# Altium footprint library my_first_iso_adc.PcbLib: 32 footprints (part 2 of 2)
Each footprint in its own frame and in the unit in brackets; x right, y up, seen from the top. Pads: shape width x height; smd on the part's side, far side on the other; paste and mask are expansions set on the pad; w line width, h text height; cw(c..) or ccw(c..) is an arc to the next point about the centre after c.
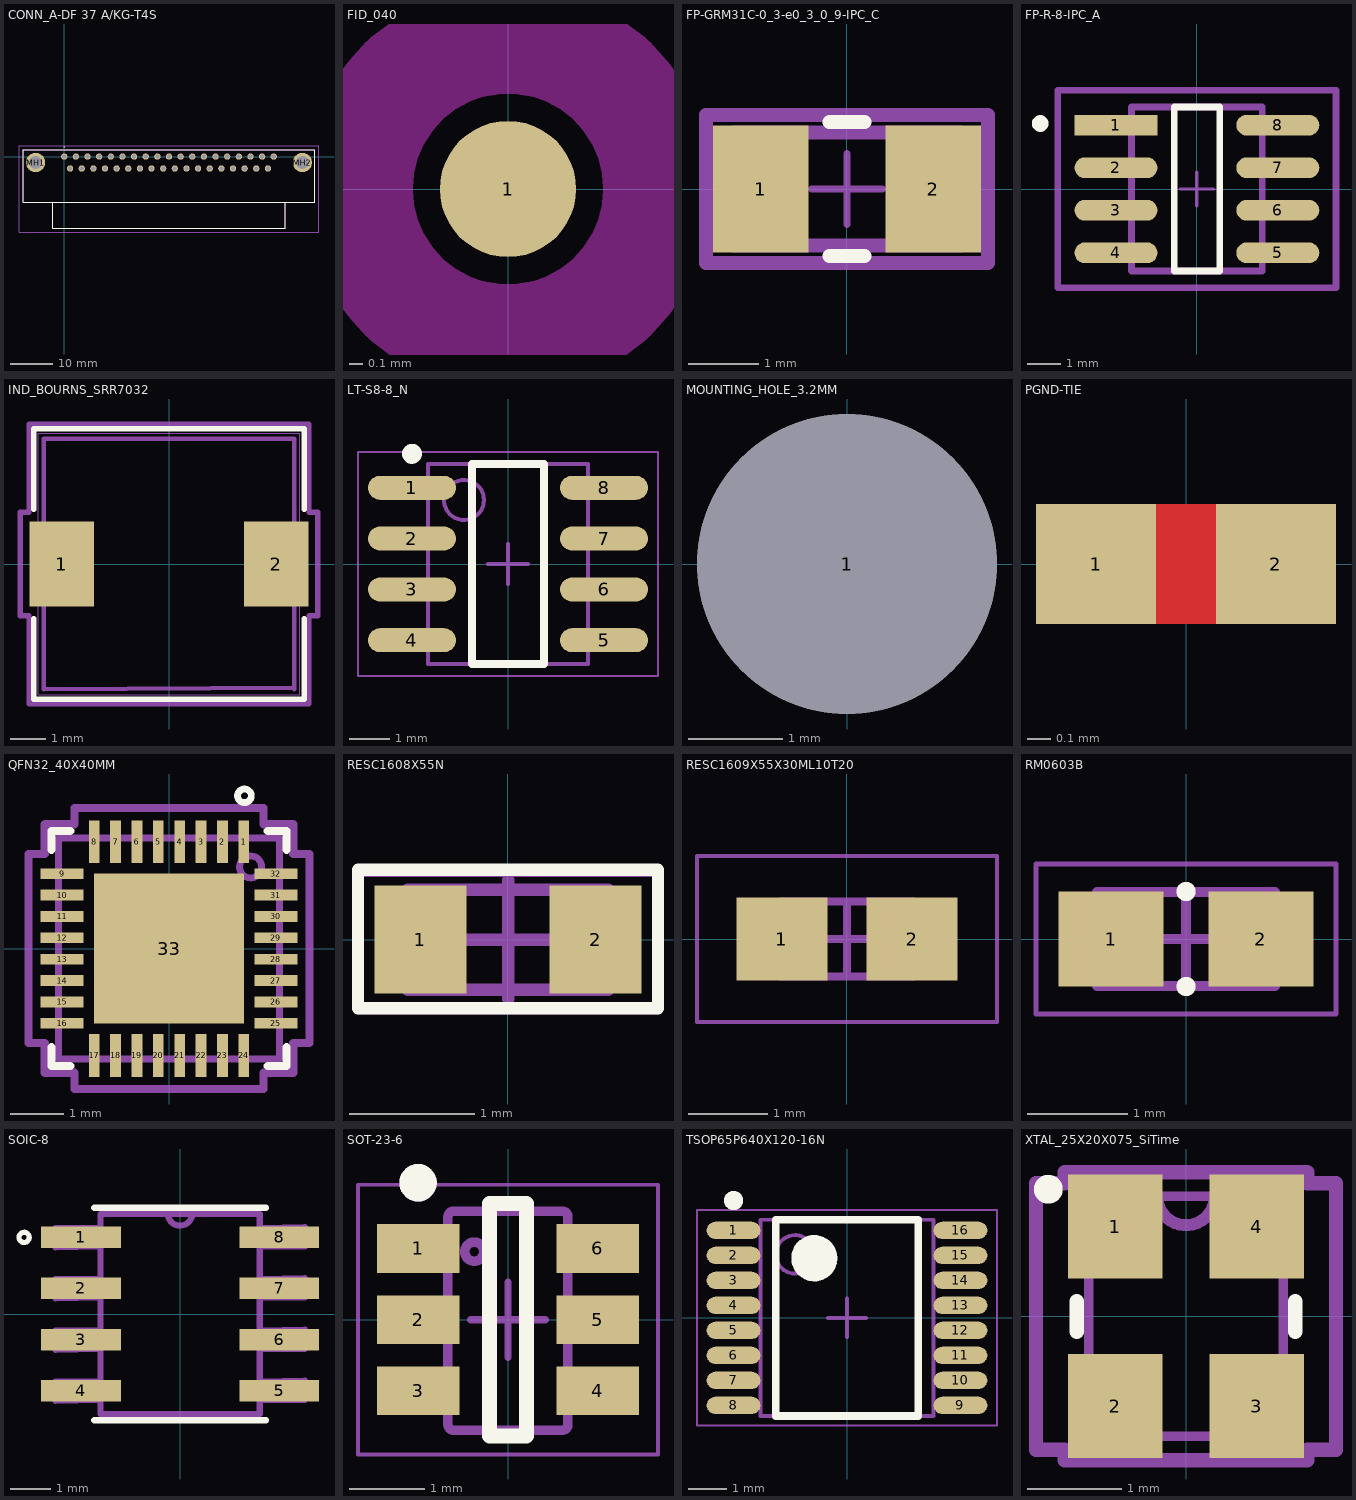
[diagram p1: the footprints below, top view; thin cyan lines are the x and y axes]

## CONN_A-DF 37 A/KG-T4S [mm]
pads (39):
  round 1.5 hole 1: 1(0,0) 2(2.77,0) 3(5.54,0) 4(8.31,0) 5(11.08,0) 6(13.85,0) 7(16.62,0) 8(19.39,0) 9(22.16,0) 10(24.93,0) 11(27.7,0) 12(30.47,0) 13(33.24,0) 14(36.01,0) 15(38.78,0) 16(41.55,0) 17(44.32,0) 18(47.09,0) 19(49.86,0) 20(1.385,-2.84) 21(4.155,-2.84) 22(6.925,-2.84) 23(9.695,-2.84) 24(12.465,-2.84) 25(15.235,-2.84) 26(18.005,-2.84) 27(20.775,-2.84) 28(23.545,-2.84) 29(26.315,-2.84) 30(29.085,-2.84) 31(31.855,-2.84) 32(34.625,-2.84) 33(37.395,-2.84) 34(40.165,-2.84) 35(42.935,-2.84) 36(45.705,-2.84) 37(48.475,-2.84)
  round 4.575 hole 3.05: MH1(-6.82,-1.42) MH2(56.68,-1.42)
Top Overlay:
  lines w0.2: -9.77,-10.92 -9.77,1.58 ; -9.77,-10.92 -9.77,1.58 ; -9.77,-10.92 -2.82,-10.92 -9.77,-10.92 ; -9.77,1.58 59.63,1.58 ; -9.77,1.58 59.63,1.58 ; 0,2.2 cw(c0,2.25) 0,2.3 ; 0,2.2 ccw(c0,2.25) 0,2.3 ; 0,2.2 cw(c0,2.25) 0,2.3 ; 52.64,-10.92 -2.78,-10.92 -2.78,-17.02 52.64,-17.02 52.64,-10.92 ; 52.64,-10.92 59.63,-10.92 ; 52.64,-10.92 59.63,-10.92 ; 59.63,-10.92 59.63,1.58 ; 59.63,-10.92 59.63,1.58
Top Assembly:
  text ".Designator" at 22.511,-5.357 h1.02
Top Courtyard:
  lines w0.1: -10.77,-18.02 -10.77,2.58 60.63,2.58 60.63,-18.02 -10.77,-18.02 ; -9.77,-10.92 -9.77,1.58 59.63,1.58 59.63,-10.92 -9.77,-10.92 ; -2.78,-17.02 -2.78,-10.92 52.64,-10.92 52.64,-17.02 -2.78,-17.02
3D body "A-DF-37-A_KG-T4S.stp": height 12.9, standoff -5, extent -9.77,-17.02 59.63,1.58

## FID_040 [mm]
pads (1):
  round 1 smd paste-1.5 mask+1: 1(0,0)
Top Layer keep-out:
  circle w0.8: c0,0 r1.1

## FP-GRM31C-0_3-e0_3_0_9-IPC_C [mm]
pads (2):
  rect 1.353x1.804 smd paste+0 mask+0: 1(-1.225,0) 2(1.225,0)
Top Overlay:
  lines w0.2: -0.249,-0.95 0.249,-0.95 ; -0.249,0.95 0.249,0.95
Top 3D Body:
  lines w0.2: -1.6,-0.8 -1.6,0.8 1.6,0.8 1.6,-0.8 -1.6,-0.8
Top Component Center:
  lines w0.1: -0.5,0 0.5,0 ; 0,-0.5 0,0.5
Top Assembly:
  lines w0.2: -2.002,-1.05 -2.002,1.05 2.002,1.05 2.002,-1.05 -2.002,-1.05
  text ".Designator" at 0,0.188 h1
Top Courtyard:
  lines w0.2: -2.002,-1.05 -2.002,1.05 2.002,1.05 2.002,-1.05 -2.002,-1.05
3D body "Cap_Murata_GRM31CC72A475KE11K_eec.STEP": height 0.25, standoff 0, extent -2.002,-1.05 2.002,1.05

## FP-R-8-IPC_A [mm]
pads (8):
  rect 2.474x0.622 smd paste+0 mask+0: 1(-2.416,1.905)
  rrect100% 2.474x0.622 smd paste+0 mask+0: 2(-2.416,0.635) 3(-2.416,-0.635) 4(-2.416,-1.905) 5(2.416,-1.905) 6(2.416,-0.635) 7(2.416,0.635) 8(2.416,1.905)
Top Overlay:
  circle w0.25: c-4.678,1.955 r0.125
  lines w0.2: -0.679,-2.45 -0.679,2.45 0.679,2.45 0.679,-2.45 -0.679,-2.45
Top Assembly:
  lines w0.2: -1.95,-2.45 -1.95,2.45 1.95,2.45 1.95,-2.45 -1.95,-2.45
  text ".Designator" at 0,0.188 h1
Top Courtyard:
  lines w0.2: -4.153,-2.95 -4.153,2.95 4.153,2.95 4.153,-2.95 -4.153,-2.95
Bottom Courtyard:
  lines w0.1: -0.5,0 0.5,0 ; 0,-0.5 0,0.5
3D body "IC_Analog_Devices_AD629ARZ_eec.STEP": height 0.25, standoff 0, extent -4.153,-2.95 4.153,2.95

## IND_BOURNS_SRR7032 [mil]
pads (2):
  rect 71x94 smd paste+0 mask+0: 1(-118,0) 2(118,0)
Top Overlay:
  lines w6: -149,-60.1 -149,-149 149,-149 149,-60.1 ; -149,60.1 -149,149 149,149 149,60.1
Top Assembly:
  lines w1: -144,-144 144,-144 144,144 -144,144 -144,-144
  lines w5: 137.8,-137.8 137.8,137.8 -137.8,137.8 -137.8,-137.8 137.8,-136.17
  text ".Designator" at -20.24,-12.23 h50
Top Courtyard:
  lines w6: -163.5,-57 -163.5,57 -154,57 -154,154 154,154 154,57 163.5,57 163.5,-57 154,-57 154,-154 -154,-154 -154,-57 -163.5,-57
3D body "IND_BOURNS_SRR7032.step": height 134.09, standoff -0.12, extent -144.02,-144.09 144.02,144.09

## LT-S8-8_N [mm]
pads (8):
  oval 2.2x0.6 smd: 1(-2.4,1.905) 2(-2.4,0.635) 3(-2.4,-0.635) 4(-2.4,-1.905) 5(2.4,-1.905) 6(2.4,-0.635) 7(2.4,0.635) 8(2.4,1.905)
Top Overlay:
  circle w0.25: c-2.4,2.755 r0.125
  lines w0.2: -0.9,-2.5 0.9,-2.5 0.9,2.5 -0.9,2.5 -0.9,-2.5
Top Assembly:
  circle w0.1: c-1.1,1.6 r0.5
  lines w0.1: -2,-2.5 -2,2.5 2,2.5 2,-2.5 -2,-2.5
  text ".Designator" at -0.594,-0.264 h1.27
Top Courtyard:
  lines w0.05: -3.75,-2.8 -3.75,2.8 3.75,2.8 3.75,-2.8 -3.75,-2.8
  lines w0.1: -0.5,0 0.5,0 ; 0,-0.5 0,0.5
3D body: height 1.76, standoff 0.1, extent -2,-2.5 2,2.5

## MOUNTING_HOLE_3.2MM [mm]
pads (1):
  round 3.2 hole 3.2 unplated: 1(0,0)

## PGND-TIE [mil]
pads (2):
  rect 20x20 smd mask+0: 1(-15,0) 2(15,0)
Top Layer:
  lines w20: -15,0 15,0

## QFN32_40X40MM [mm]
pads (37):
  rect 0.2x0.8 smd paste+0 mask+0.051: 1(1.4,2) 2(1,2) 3(0.6,2) 4(0.2,2) 5(-0.2,2) 6(-0.6,2) 7(-1,2) 8(-1.4,2) 17(-1.4,-2) 18(-1,-2) 19(-0.6,-2) 20(-0.2,-2) 21(0.2,-2) 22(0.6,-2) 23(1,-2) 24(1.4,-2)
  rect 0.8x0.2 smd paste+0 mask+0.051: 9(-2,1.4) 10(-2,1) 11(-2,0.6) 12(-2,0.2) 13(-2,-0.2) 14(-2,-0.6) 15(-2,-1) 16(-2,-1.4) 25(2,-1.4) 26(2,-1) 27(2,-0.6) 28(2,-0.2) 29(2,0.2) 30(2,0.6) 31(2,1) 32(2,1.4)
  rect 2.8x2.8 smd paste+0 mask+0: 33(0,0)
  rect 1.2x1.2 on Top Paste: ""(-0.75,-0.75) ""(-0.75,0.75) ""(0.75,-0.75) ""(0.75,0.75)
Top Overlay:
  circle w0.127: c1.412,2.857 r0.128
  lines w0.152: -2.197,-1.847 -2.197,-2.197 -1.847,-2.197 ; -2.197,1.847 -2.197,2.197 -1.847,2.197 ; 1.847,-2.197 2.197,-2.197 2.197,-1.847 ; 1.847,2.197 2.197,2.197 2.197,1.847
Top Assembly:
  circle w0.127: c1.527,1.527 r0.206
  lines w0.127: -2.07,-2.07 2.07,-2.07 2.07,2.07 -2.07,2.07 -2.07,-2.07 ; -2.07,-1.527 -2.07,-1.273 -2.07,-1.527 ; -2.07,-1.127 -2.07,-0.873 -2.07,-1.127 ; -2.07,-0.727 -2.07,-0.473 -2.07,-0.727 ; -2.07,-0.327 -2.07,-0.073 -2.07,-0.327 ; -2.07,0.073 -2.07,0.327 -2.07,0.073 ; -2.07,0.473 -2.07,0.727 -2.07,0.473 ; -2.07,0.873 -2.07,1.127 -2.07,0.873 ; -2.07,1.273 -2.07,1.527 -2.07,1.273 ; -1.527,-2.07 -1.273,-2.07 -1.527,-2.07 ; -1.527,2.07 -1.273,2.07 -1.527,2.07 ; -1.127,-2.07 -0.873,-2.07 -1.127,-2.07 ; -1.127,2.07 -0.873,2.07 -1.127,2.07 ; -0.727,-2.07 -0.473,-2.07 -0.727,-2.07 ; -0.727,2.07 -0.473,2.07 -0.727,2.07 ; -0.327,-2.07 -0.073,-2.07 -0.327,-2.07 ; -0.327,2.07 -0.073,2.07 -0.327,2.07 ; 0.073,-2.07 0.327,-2.07 0.073,-2.07 ; 0.073,2.07 0.327,2.07 0.073,2.07 ; 0.473,-2.07 0.727,-2.07 0.473,-2.07 ; 0.473,2.07 0.727,2.07 0.473,2.07 ; 0.873,-2.07 1.127,-2.07 0.873,-2.07 ; 0.873,2.07 1.127,2.07 0.873,2.07 ; 1.273,-2.07 1.527,-2.07 1.273,-2.07 ; 1.273,2.07 1.527,2.07 1.273,2.07 ; 2.07,-1.527 2.07,-1.273 2.07,-1.527 ; 2.07,-1.127 2.07,-0.873 2.07,-1.127 ; 2.07,-0.727 2.07,-0.473 2.07,-0.727 ; 2.07,-0.327 2.07,-0.073 2.07,-0.327 ; 2.07,0.073 2.07,0.327 2.07,0.073 ; 2.07,0.473 2.07,0.727 2.07,0.473 ; 2.07,0.873 2.07,1.127 2.07,0.873 ; 2.07,1.273 2.07,1.527 2.07,1.273
  text ".Designator" at -0.936,-0.428 h1.52
Top Courtyard:
  lines w0.152: -2.629,-1.768 -2.629,1.768 -2.324,1.768 -2.324,2.324 -1.768,2.324 -1.768,2.629 1.768,2.629 1.768,2.324 2.324,2.324 2.324,1.768 2.629,1.768 2.629,-1.768 2.324,-1.768 2.324,-2.324 1.768,-2.324 1.768,-2.629 -1.768,-2.629 -1.768,-2.324 -2.324,-2.324 -2.324,-1.768 -2.629,-1.768
3D body "RSN32_TEX.step": height 0.97, standoff 0, extent -2.07,-2.07 2.07,2.07

## RESC1608X55N [mil]
pads (2):
  rect 29x34 smd mask+2: 1(-27.56,0) 2(27.56,0)
Top Overlay:
  lines w3.94: -47.24,21.65 -47.24,-21.65 47.24,-21.65 47.24,21.65 ; -47.24,22 47.24,22
Top Assembly:
  lines w3.94: -31.5,-15.75 -31.5,15.75 31.5,15.75 31.5,-15.75 -31.5,-15.75
  text ".Designator" at -31.5,-15.75 h40
Top Courtyard:
  lines w3.94: -18.7,0 18.7,0 ; 0,-18.7 0,18.7 ; -47.24,-21.65 47.24,-21.65 47.24,21.65 -47.24,21.65 -47.24,-21.65
3D body "ERJ-PB3D2701V.STEP": height 21.65, standoff 0, extent -31.5,-15.75 31.5,15.75

## RESC1609X55X30ML10T20 [mm] "Chip Resistor, 2-Leads, Body 1.60x0.85mm, IPC Low Density"
height 0.55
pads (2):
  rect 1.15x1.05 smd: 1(-0.825,0) 2(0.825,0)
Top Assembly:
  lines w0.1: -0.85,-0.475 0.85,-0.475 0.85,0.475 -0.85,0.475 -0.85,-0.475
Top Courtyard:
  lines w0.05: -1.9,-1.05 1.9,-1.05 1.9,1.05 -1.9,1.05 -1.9,-1.05
  lines w0.1: -0.475,0 0.475,0 ; 0,-0.475 0,0.475
3D body: height 0.55, standoff 0, extent 0.55,-0.475 0.85,0.475
3D body: height 0.55, standoff 0, extent -0.85,-0.475 -0.55,0.475
3D body: height 0.55, standoff 0, extent -0.55,-0.475 0.55,0.475

## RM0603B [mm] "RM0603 Chip Resistor, Config B, 2-Leads, Body 1.63x0.82mm, IPC Medium Density"
height 0.84
pads (2):
  rect 1.05x0.95 smd: 1(-0.75,0) 2(0.75,0)
Top Overlay:
  circle w0.097: c0,-0.475 r0.048
  circle w0.097: c0,0.475 r0.048
Top Assembly:
  lines w0.1: -0.89,-0.47 0.89,-0.47 0.89,0.47 -0.89,0.47 -0.89,-0.47
Top Courtyard:
  lines w0.05: -1.5,-0.75 1.5,-0.75 1.5,0.75 -1.5,0.75 -1.5,-0.75
  lines w0.1: -0.47,0 0.47,0 ; 0,-0.47 0,0.47
3D body: height 0.84, standoff 0, extent 0.51,-0.47 0.89,0.47
3D body: height 0.84, standoff 0, extent -0.89,-0.47 -0.51,0.47
3D body: height 0.84, standoff 0, extent -0.51,-0.47 0.51,0.47

## SOIC-8 [mil]
pads (8):
  rect 78x21 smd: 1(-97,75) 2(-97,25) 3(-97,-25) 4(-97,-75) 5(97,-75) 6(97,-25) 7(97,25) 8(97,75)
Top Overlay:
  circle w5: c-152.67,75 r5
  lines w6: -84,-104 84,-104 ; -84,104 84,104
Top Assembly:
  lines w6: -12,98.08 ccw(c0,98.5) 12,98.92 ; -122,-85 -78,-84 -78,-66 -122,-66 -122,-85 ; -122,-35 -78,-34 -78,-16 -122,-16 -122,-35 ; -122,15 -78,16 -78,34 -122,34 -122,15 ; -122,65 -122,84 -78,84 -78,66 -122,65 ; -78,-98 -78,98 -12,98 78,98 78,-98 -78,-98 ; 78,-84 122,-84 122,-65 78,-66 78,-84 ; 78,-34 78,-16 122,-15 122,-34 78,-34 ; 78,16 122,16 122,35 78,34 78,16 ; 78,66 122,66 122,85 78,84 78,66
  text ".Designator" at -29.11,-17.53 h60
3D body "LT1678CS8#TRPBF.STEP": height 69, standoff 0, extent -118,-96.5 118,96.5

## SOT-23-6 [mm]
pads (6):
  rect 1.1x0.65 smd paste-0.102 mask+0.051: 1(-1.2,0.95) 2(-1.2,0) 3(-1.2,-0.95) 4(1.2,-0.95) 5(1.2,0) 6(1.2,0.95)
Top Overlay:
  circle w0.25: c-1.2,1.825 r0.125
  lines w0.2: -0.25,-1.55 -0.25,1.55 0.25,1.55 0.25,-1.55 -0.25,-1.55
Top Assembly:
  circle w0.25: c-1.2,1.825 r0.125
  lines w0.127: 0.724,-1.475 ccw(c0.723,-1.399) 0.8,-1.399 0.8,1.37 ccw(c0.723,1.37) 0.724,1.446 ; 0.723,-1.475 0.724,-1.475 ; 0.723,-1.475 -0.724,-1.475 -0.725,-1.475 cw(c-0.724,-1.399) -0.801,-1.399 -0.801,1.37 cw(c-0.724,1.37) -0.725,1.446 -0.724,1.446 0.723,1.446 ; 0.723,1.446 0.724,1.446 ; -1.423,-1.154 -1.423,-0.78 -1.206,-0.78 -1.113,-0.78 -1.081,-0.78 -0.828,-0.78 -0.801,-0.78 -0.801,-1.154 -0.828,-1.154 -1.081,-1.154 -1.113,-1.154 -1.206,-1.154 -1.423,-1.154 ; -1.423,-0.202 -1.423,0.173 -1.206,0.173 -1.113,0.173 -1.081,0.173 -0.828,0.173 -0.801,0.173 -0.801,-0.202 -0.828,-0.202 -1.081,-0.202 -1.113,-0.202 -1.206,-0.202 -1.423,-0.202 ; -1.423,0.751 -1.423,1.125 -1.206,1.125 -1.113,1.125 -1.081,1.125 -0.828,1.125 -0.801,1.125 -0.801,0.751 -0.828,0.751 -1.081,0.751 -1.113,0.751 -1.206,0.751 -1.423,0.751 ; -0.577,0.906 ccw(c-0.45,0.906) -0.323,0.906 ccw(c-0.45,0.906) -0.577,0.906 ; 0.8,-1.154 0.8,-0.78 0.827,-0.78 1.08,-0.78 1.112,-0.78 1.205,-0.78 1.422,-0.78 1.422,-1.154 1.205,-1.154 1.112,-1.154 1.08,-1.154 0.827,-1.154 0.8,-1.154 ; 0.8,-0.202 0.827,-0.202 1.08,-0.202 1.112,-0.202 1.205,-0.202 1.422,-0.202 1.422,0.173 1.205,0.173 1.112,0.173 1.08,0.173 0.827,0.173 0.8,0.173 0.8,-0.202 ; 0.8,0.751 0.8,1.125 0.827,1.125 1.08,1.125 1.112,1.125 1.205,1.125 1.422,1.125 1.422,0.751 1.205,0.751 1.112,0.751 1.08,0.751 0.827,0.751 0.8,0.751
  text ".Designator" at -0.71,0.925 h1.27
Top Courtyard:
  lines w0.05: -2,-1.8 2,-1.8 2,1.8 -2,1.8 -2,-1.8
  lines w0.1: -0.5,0 0.5,0 ; 0,-0.5 0,0.5
3D body "DBV0006A.stp": height 1.2, standoff 0, extent -1.4,-1.45 1.4,1.45

## TSOP65P640X120-16N [mm]
pads (16):
  oval 1.4x0.45 smd: 1(-2.95,2.275) 2(-2.95,1.625) 3(-2.95,0.975) 4(-2.95,0.325) 5(-2.95,-0.325) 6(-2.95,-0.975) 7(-2.95,-1.625) 8(-2.95,-2.275) 9(2.95,-2.275) 10(2.95,-1.625) 11(2.95,-0.975) 12(2.95,-0.325) 13(2.95,0.325) 14(2.95,0.975) 15(2.95,1.625) 16(2.95,2.275)
Top Overlay:
  circle w0.6: c-0.85,1.55 r0.3
  circle w0.25: c-2.95,3.05 r0.125
  lines w0.2: -1.85,-2.55 1.85,-2.55 1.85,2.55 -1.85,2.55 -1.85,-2.55
Top Assembly:
  circle w0.1: c-1.35,1.65 r0.5
  lines w0.1: -2.25,-2.55 2.25,-2.55 2.25,2.55 -2.25,2.55 -2.25,-2.55
  text ".Designator" at -0.805,-0.435 h1.52
Top Courtyard:
  lines w0.05: -3.9,-2.8 3.9,-2.8 3.9,2.8 -3.9,2.8 -3.9,-2.8
  lines w0.1: -0.5,0 0.5,0 ; 0,-0.5 0,0.5
3D body "TSOP65P640X120-16N.step": height 1.2, standoff 0, extent -3.2,-2.55 3.2,2.55

## XTAL_25X20X075_SiTime [mm]
pads (4):
  rect 1x1.1 smd paste+0 mask+0: 1(-0.75,0.95) 2(-0.75,-0.95) 3(0.75,-0.95) 4(0.75,0.95)
Top Overlay:
  circle w0.152: c-1.457,1.345 r0.076
  lines w0.152: -1.156,-0.162 -1.156,0.162 ; 1.156,-0.162 1.156,0.162
Top Assembly:
  lines w0.102: -1.029,-1.27 -1.029,1.27 1.029,1.27 1.029,-1.27 -1.029,-1.27
  lines w0.127: -0.305,1.27 ccw(c0,1.27) 0.305,1.27
  text ".Designator" at 0.428,0.266 h0.8
Top Courtyard:
  lines w0.152: -1.587,-1.409 -1.587,1.409 -1.283,1.409 -1.283,1.524 1.283,1.524 1.283,1.409 1.587,1.409 1.587,-1.409 1.283,-1.409 1.283,-1.524 -1.283,-1.524 -1.283,-1.409 -1.587,-1.409
3D body "CDFN4_2P5X2_MCH.step": height 0.89, standoff 0, extent -1.029,-1.27 1.029,1.27